# Altium integrated library HLK-PM03.IntLib: 1 symbol
Pins are listed as number, name and electrical type; pins without a type are passive.

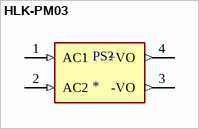
[diagram p0: symbol HLK-PM03]

## HLK-PM03
designator PS?
MP: HLK-PM03; MF: Hi-link; Availability: Not in stock; SnapEDA_Link: https://www.snapeda.com/parts/HLK-PM03/Hi-link/view-part/?ref=snap; Price: None; Package: Package; Check_prices: https://www.snapeda.com/parts/HLK-PM03/Hi-link/view-part/?ref=eda; Value: *
footprint CONV_HLK-PM03
pins: 1 AC1 (in), 2 AC2 (in), 3 -VO (out), 4 +VO (out)